# Altium integrated library Cypress PLD MAX EPLD.IntLib: 163 symbols (part 6 of 6)
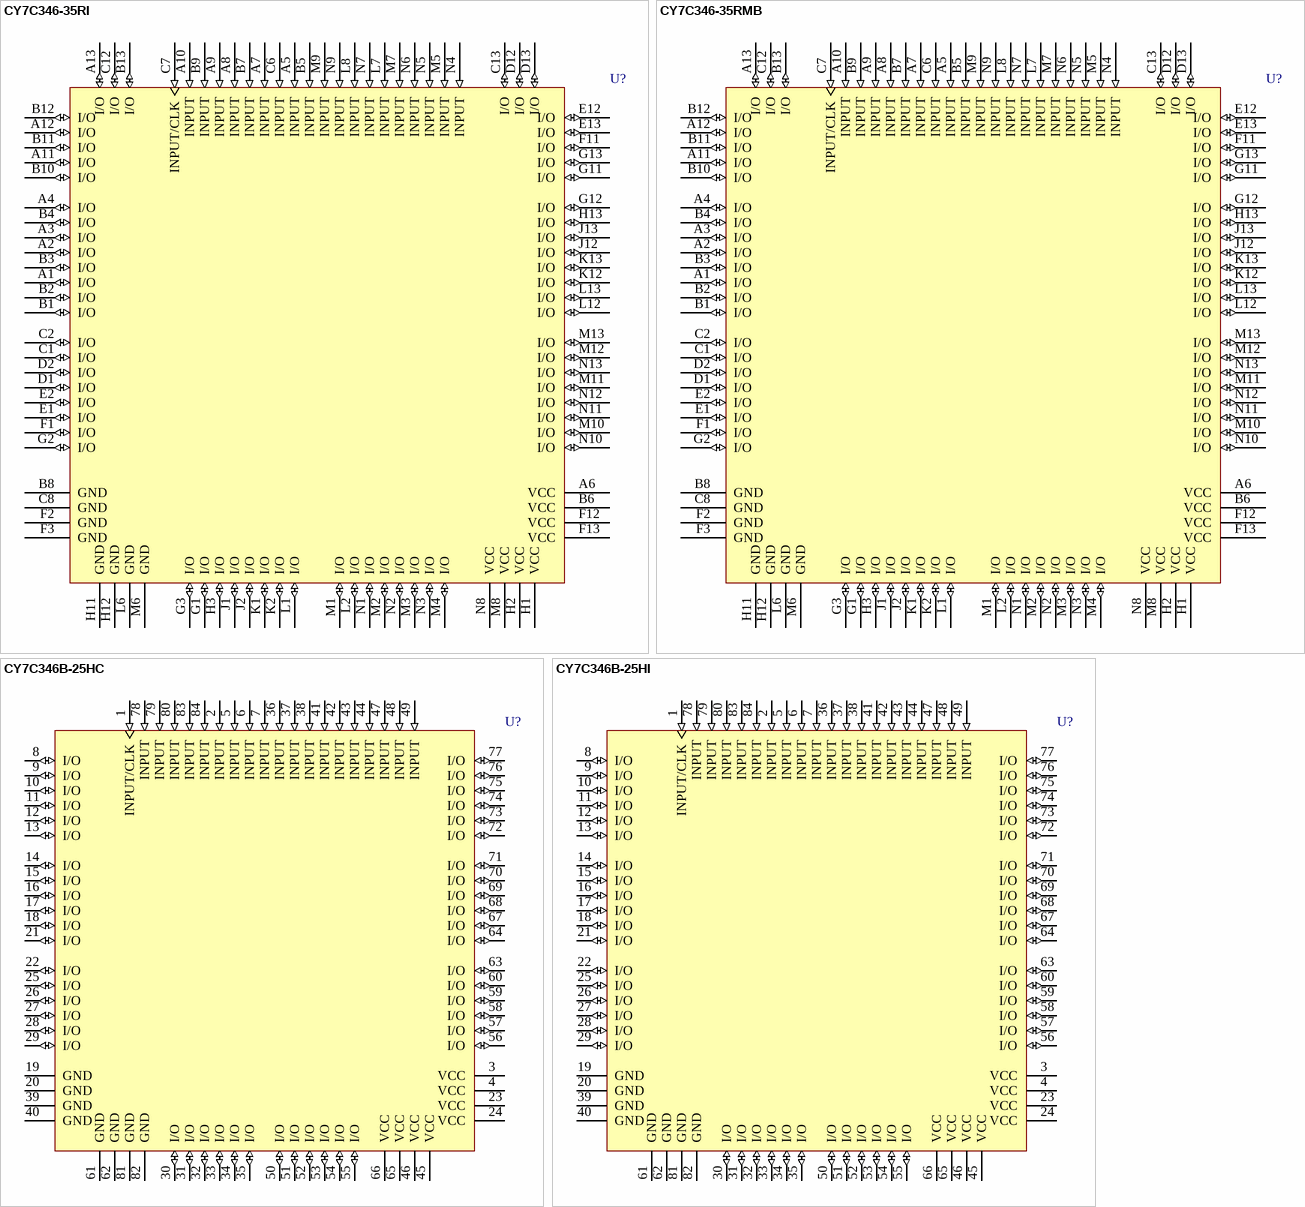
[diagram p28: symbols CY7C346-35RI to CY7C346B-25HI]

## CY7C346B-25HC
designator U?
128-Macrocell MAX EPLD; Published: 11-Dec-2002; LatestRevisionDate: 13-Apr-2006; LatestRevisionNote: IPC-7351 Footprint Added.; DatasheetVersion: 8-Dec-1999; PackageVersion: 8-Apr-2002; PackageReference: H84; Publisher: Altium Limited; PackageDescription: 84-Pin Window Leaded Chip Carrier 1.27 mm Pitch; ComponentLink1Description: Manufacturer Link; ComponentLink1URL: http://www.cypress.com/; ComponentLink2Description: Datasheet; ComponentLink2URL: http://www.cypress.com/portal/server.pt/gateway/PTARGS_0_2_1524_209_259_43/http%3B/sjapp20.mis.cypress.com%3B7001/publishedcontent/publish/design_resources/datasheets/contents/cy7c346b_5.pdf
footprint H84_N (Leaded Chip Carrier, 84-Leads, Body 29.2x29.2mm, Pitch 1.27mm, IPC Medium Density)
footprint H84_L (Leaded Chip Carrier, 84-Leads, Body 29.2x29.2mm, Pitch 1.27mm, IPC High Density)
footprint H84_M (Leaded Chip Carrier, 84-Leads, Body 29.2x29.2mm, Pitch 1.27mm, IPC Low Density)
3D model CY7C346B-H84 (84-Pin Window Leaded Chip Carrier 1.27 mm Pitch)
pins: 1 INPUT/CLK (in), 2 INPUT (in), 3 VCC (power), 4 VCC (power), 5 INPUT (in), 6 INPUT (in), 7 INPUT (in), 8 I/O (io), 9 I/O (io), 10 I/O (io), 11 I/O (io), 12 I/O (io), 13 I/O (io), 14 I/O (io), 15 I/O (io), 16 I/O (io), 17 I/O (io), 18 I/O (io), 19 GND (power), 20 GND (power), 21 I/O (io), 22 I/O (io), 23 VCC (power), 24 VCC (power), 25 I/O (io), 26 I/O (io), 27 I/O (io), 28 I/O (io), 29 I/O (io), 30 I/O (io), 31 I/O (io), 32 I/O (io), 33 I/O (io), 34 I/O (io), 35 I/O (io), 36 INPUT (in), 37 INPUT (in), 38 INPUT (in), 39 GND (power), 40 GND (power), 41 INPUT (in), 42 INPUT (in), 43 INPUT (in), 44 INPUT (in), 45 VCC (power), 46 VCC (power), 47 INPUT (in), 48 INPUT (in), 49 INPUT (in), 50 I/O (io), 51 I/O (io), 52 I/O (io), 53 I/O (io), 54 I/O (io), 55 I/O (io), 56 I/O (io), 57 I/O (io), 58 I/O (io), 59 I/O (io), 60 I/O (io), 61 GND (power), 62 GND (power), 63 I/O (io), 64 I/O (io), 65 VCC (power), 66 VCC (power), 67 I/O (io), 68 I/O (io), 69 I/O (io), 70 I/O (io), 71 I/O (io), 72 I/O (io), 73 I/O (io), 74 I/O (io), 75 I/O (io), 76 I/O (io), 77 I/O (io), 78 INPUT (in), 79 INPUT (in), 80 INPUT (in), 81 GND (power), 82 GND (power), 83 INPUT (in), 84 INPUT (in)

## CY7C346B-25HI
designator U?
128-Macrocell MAX EPLD; Published: 11-Dec-2002; LatestRevisionDate: 13-Apr-2006; LatestRevisionNote: IPC-7351 Footprint Added.; DatasheetVersion: 8-Dec-1999; PackageVersion: 8-Apr-2002; PackageReference: H84; Publisher: Altium Limited; PackageDescription: 84-Pin Window Leaded Chip Carrier 1.27 mm Pitch; ComponentLink1Description: Manufacturer Link; ComponentLink1URL: http://www.cypress.com/; ComponentLink2Description: Datasheet; ComponentLink2URL: http://www.cypress.com/portal/server.pt/gateway/PTARGS_0_2_1524_209_259_43/http%3B/sjapp20.mis.cypress.com%3B7001/publishedcontent/publish/design_resources/datasheets/contents/cy7c346b_5.pdf
footprint H84_N (Leaded Chip Carrier, 84-Leads, Body 29.2x29.2mm, Pitch 1.27mm, IPC Medium Density)
footprint H84_L (Leaded Chip Carrier, 84-Leads, Body 29.2x29.2mm, Pitch 1.27mm, IPC High Density)
footprint H84_M (Leaded Chip Carrier, 84-Leads, Body 29.2x29.2mm, Pitch 1.27mm, IPC Low Density)
3D model CY7C346B-H84 (84-Pin Window Leaded Chip Carrier 1.27 mm Pitch)
pins: 1 INPUT/CLK (in), 2 INPUT (in), 3 VCC (power), 4 VCC (power), 5 INPUT (in), 6 INPUT (in), 7 INPUT (in), 8 I/O (io), 9 I/O (io), 10 I/O (io), 11 I/O (io), 12 I/O (io), 13 I/O (io), 14 I/O (io), 15 I/O (io), 16 I/O (io), 17 I/O (io), 18 I/O (io), 19 GND (power), 20 GND (power), 21 I/O (io), 22 I/O (io), 23 VCC (power), 24 VCC (power), 25 I/O (io), 26 I/O (io), 27 I/O (io), 28 I/O (io), 29 I/O (io), 30 I/O (io), 31 I/O (io), 32 I/O (io), 33 I/O (io), 34 I/O (io), 35 I/O (io), 36 INPUT (in), 37 INPUT (in), 38 INPUT (in), 39 GND (power), 40 GND (power), 41 INPUT (in), 42 INPUT (in), 43 INPUT (in), 44 INPUT (in), 45 VCC (power), 46 VCC (power), 47 INPUT (in), 48 INPUT (in), 49 INPUT (in), 50 I/O (io), 51 I/O (io), 52 I/O (io), 53 I/O (io), 54 I/O (io), 55 I/O (io), 56 I/O (io), 57 I/O (io), 58 I/O (io), 59 I/O (io), 60 I/O (io), 61 GND (power), 62 GND (power), 63 I/O (io), 64 I/O (io), 65 VCC (power), 66 VCC (power), 67 I/O (io), 68 I/O (io), 69 I/O (io), 70 I/O (io), 71 I/O (io), 72 I/O (io), 73 I/O (io), 74 I/O (io), 75 I/O (io), 76 I/O (io), 77 I/O (io), 78 INPUT (in), 79 INPUT (in), 80 INPUT (in), 81 GND (power), 82 GND (power), 83 INPUT (in), 84 INPUT (in)

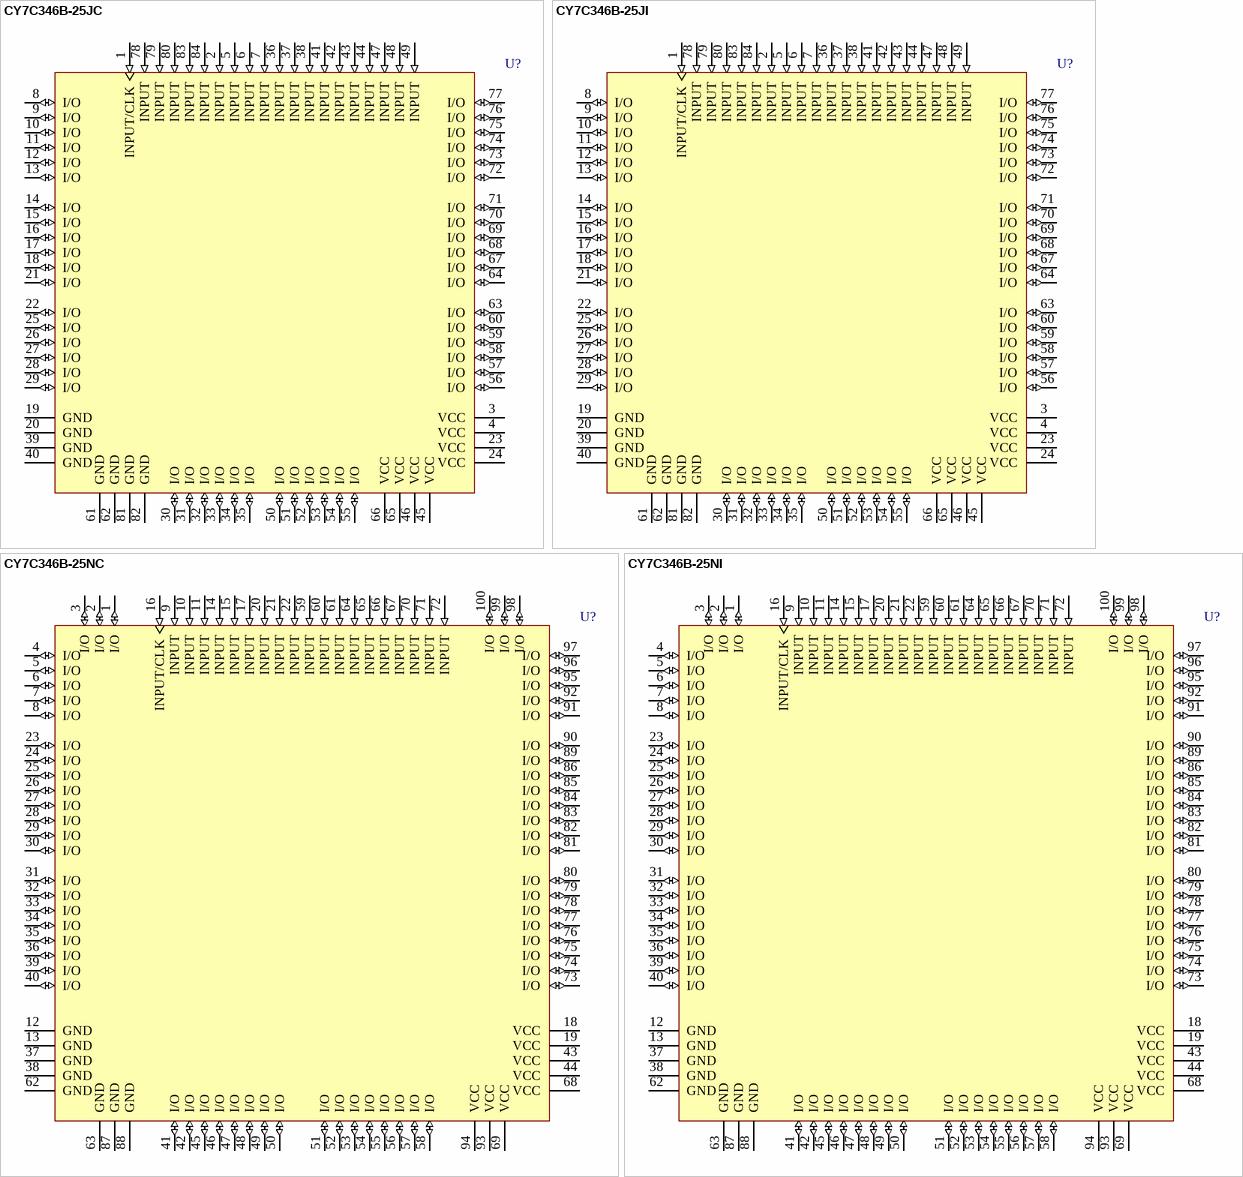
[diagram p20: symbols CY7C346B-25JC to CY7C346B-25NI]

## CY7C346B-25JC
designator U?
128-Macrocell MAX EPLD; Published: 11-Dec-2002; LatestRevisionDate: 13-Apr-2006; LatestRevisionNote: IPC-7351 Footprint Added.; DatasheetVersion: 8-Dec-1999; PackageVersion: Mar-2001; PackageReference: J83; Publisher: Altium Limited; PackageDescription: 84-Pin Plastic Leaded Chip Carrier 1.27 mm Pitch; Code_IPC: PLCC-84; ComponentLink1Description: Manufacturer Link; ComponentLink1URL: http://www.cypress.com/; ComponentLink2Description: Datasheet; ComponentLink2URL: http://www.cypress.com/portal/server.pt/gateway/PTARGS_0_2_1524_209_259_43/http%3B/sjapp20.mis.cypress.com%3B7001/publishedcontent/publish/design_resources/datasheets/contents/cy7c346b_5.pdf
footprint J83_N (Leaded Chip Carrier, 84-Leads, Body 29.3x29.3mm, Pitch 1.27mm, IPC Medium Density)
footprint J83_L (Leaded Chip Carrier, 84-Leads, Body 29.3x29.3mm, Pitch 1.27mm, IPC High Density)
footprint J83_M (Leaded Chip Carrier, 84-Leads, Body 29.3x29.3mm, Pitch 1.27mm, IPC Low Density)
3D model CY7C346B-J83 (84-Pin Plastic Leaded Chip Carrier 1.27 mm Pitch)
pins: 1 INPUT/CLK (in), 2 INPUT (in), 3 VCC (power), 4 VCC (power), 5 INPUT (in), 6 INPUT (in), 7 INPUT (in), 8 I/O (io), 9 I/O (io), 10 I/O (io), 11 I/O (io), 12 I/O (io), 13 I/O (io), 14 I/O (io), 15 I/O (io), 16 I/O (io), 17 I/O (io), 18 I/O (io), 19 GND (power), 20 GND (power), 21 I/O (io), 22 I/O (io), 23 VCC (power), 24 VCC (power), 25 I/O (io), 26 I/O (io), 27 I/O (io), 28 I/O (io), 29 I/O (io), 30 I/O (io), 31 I/O (io), 32 I/O (io), 33 I/O (io), 34 I/O (io), 35 I/O (io), 36 INPUT (in), 37 INPUT (in), 38 INPUT (in), 39 GND (power), 40 GND (power), 41 INPUT (in), 42 INPUT (in), 43 INPUT (in), 44 INPUT (in), 45 VCC (power), 46 VCC (power), 47 INPUT (in), 48 INPUT (in), 49 INPUT (in), 50 I/O (io), 51 I/O (io), 52 I/O (io), 53 I/O (io), 54 I/O (io), 55 I/O (io), 56 I/O (io), 57 I/O (io), 58 I/O (io), 59 I/O (io), 60 I/O (io), 61 GND (power), 62 GND (power), 63 I/O (io), 64 I/O (io), 65 VCC (power), 66 VCC (power), 67 I/O (io), 68 I/O (io), 69 I/O (io), 70 I/O (io), 71 I/O (io), 72 I/O (io), 73 I/O (io), 74 I/O (io), 75 I/O (io), 76 I/O (io), 77 I/O (io), 78 INPUT (in), 79 INPUT (in), 80 INPUT (in), 81 GND (power), 82 GND (power), 83 INPUT (in), 84 INPUT (in)

## CY7C346B-25JI
designator U?
128-Macrocell MAX EPLD; Published: 11-Dec-2002; LatestRevisionDate: 13-Apr-2006; LatestRevisionNote: IPC-7351 Footprint Added.; DatasheetVersion: 8-Dec-1999; PackageVersion: Mar-2001; PackageReference: J83; Publisher: Altium Limited; PackageDescription: 84-Pin Plastic Leaded Chip Carrier 1.27 mm Pitch; Code_IPC: PLCC-84; ComponentLink1Description: Manufacturer Link; ComponentLink1URL: http://www.cypress.com/; ComponentLink2Description: Datasheet; ComponentLink2URL: http://www.cypress.com/portal/server.pt/gateway/PTARGS_0_2_1524_209_259_43/http%3B/sjapp20.mis.cypress.com%3B7001/publishedcontent/publish/design_resources/datasheets/contents/cy7c346b_5.pdf
footprint J83_N (Leaded Chip Carrier, 84-Leads, Body 29.3x29.3mm, Pitch 1.27mm, IPC Medium Density)
footprint J83_L (Leaded Chip Carrier, 84-Leads, Body 29.3x29.3mm, Pitch 1.27mm, IPC High Density)
footprint J83_M (Leaded Chip Carrier, 84-Leads, Body 29.3x29.3mm, Pitch 1.27mm, IPC Low Density)
3D model CY7C346B-J83 (84-Pin Plastic Leaded Chip Carrier 1.27 mm Pitch)
pins: 1 INPUT/CLK (in), 2 INPUT (in), 3 VCC (power), 4 VCC (power), 5 INPUT (in), 6 INPUT (in), 7 INPUT (in), 8 I/O (io), 9 I/O (io), 10 I/O (io), 11 I/O (io), 12 I/O (io), 13 I/O (io), 14 I/O (io), 15 I/O (io), 16 I/O (io), 17 I/O (io), 18 I/O (io), 19 GND (power), 20 GND (power), 21 I/O (io), 22 I/O (io), 23 VCC (power), 24 VCC (power), 25 I/O (io), 26 I/O (io), 27 I/O (io), 28 I/O (io), 29 I/O (io), 30 I/O (io), 31 I/O (io), 32 I/O (io), 33 I/O (io), 34 I/O (io), 35 I/O (io), 36 INPUT (in), 37 INPUT (in), 38 INPUT (in), 39 GND (power), 40 GND (power), 41 INPUT (in), 42 INPUT (in), 43 INPUT (in), 44 INPUT (in), 45 VCC (power), 46 VCC (power), 47 INPUT (in), 48 INPUT (in), 49 INPUT (in), 50 I/O (io), 51 I/O (io), 52 I/O (io), 53 I/O (io), 54 I/O (io), 55 I/O (io), 56 I/O (io), 57 I/O (io), 58 I/O (io), 59 I/O (io), 60 I/O (io), 61 GND (power), 62 GND (power), 63 I/O (io), 64 I/O (io), 65 VCC (power), 66 VCC (power), 67 I/O (io), 68 I/O (io), 69 I/O (io), 70 I/O (io), 71 I/O (io), 72 I/O (io), 73 I/O (io), 74 I/O (io), 75 I/O (io), 76 I/O (io), 77 I/O (io), 78 INPUT (in), 79 INPUT (in), 80 INPUT (in), 81 GND (power), 82 GND (power), 83 INPUT (in), 84 INPUT (in)

## CY7C346B-25NC
designator U?
128-Macrocell MAX EPLD; Published: 11-Dec-2002; LatestRevisionDate: 13-Apr-2006; LatestRevisionNote: IPC-7351 Footprint Added.; DatasheetVersion: 8-Dec-1999; PackageVersion: Apr-2002; PackageReference: N100; Publisher: Altium Limited; PackageDescription: 100-Pin Plastic Quad Flat Pack Rectangular 0.65 mm Pitch; Code_IPC: QFP65P1720X2320-100; ComponentLink1Description: Manufacturer Link; ComponentLink1URL: http://www.cypress.com/; ComponentLink2Description: Datasheet; ComponentLink2URL: http://www.cypress.com/portal/server.pt/gateway/PTARGS_0_2_1524_209_259_43/http%3B/sjapp20.mis.cypress.com%3B7001/publishedcontent/publish/design_resources/datasheets/contents/cy7c346b_5.pdf
footprint N100_N (QFP, 100-Leads, Body 20x14mm, Pitch 0.65mm, IPC Medium Density)
footprint N100_L (QFP, 100-Leads, Body 20x14mm, Pitch 0.65mm, IPC High Density)
footprint N100_M (QFP, 100-Leads, Body 20x14mm, Pitch 0.65mm, IPC Low Density)
3D model CY7C346B-N100 (100-Pin Plastic Quad Flat Pack Rectangular 0.65 mm Pitch)
pins: 1 I/O (io), 2 I/O (io), 3 I/O (io), 4 I/O (io), 5 I/O (io), 6 I/O (io), 7 I/O (io), 8 I/O (io), 9 INPUT (in), 10 INPUT (in), 11 INPUT (in), 12 GND (power), 13 GND (power), 14 INPUT (in), 15 INPUT (in), 16 INPUT/CLK (in), 17 INPUT (in), 18 VCC (power), 19 VCC (power), 20 INPUT (in), 21 INPUT (in), 22 INPUT (in), 23 I/O (io), 24 I/O (io), 25 I/O (io), 26 I/O (io), 27 I/O (io), 28 I/O (io), 29 I/O (io), 30 I/O (io), 31 I/O (io), 32 I/O (io), 33 I/O (io), 34 I/O (io), 35 I/O (io), 36 I/O (io), 37 GND (power), 38 GND (power), 39 I/O (io), 40 I/O (io), 41 I/O (io), 42 I/O (io), 43 VCC (power), 44 VCC (power), 45 I/O (io), 46 I/O (io), 47 I/O (io), 48 I/O (io), 49 I/O (io), 50 I/O (io), 51 I/O (io), 52 I/O (io), 53 I/O (io), 54 I/O (io), 55 I/O (io), 56 I/O (io), 57 I/O (io), 58 I/O (io), 59 INPUT (in), 60 INPUT (in), 61 INPUT (in), 62 GND (power), 63 GND (power), 64 INPUT (in), 65 INPUT (in), 66 INPUT (in), 67 INPUT (in), 68 VCC (power), 69 VCC (power), 70 INPUT (in), 71 INPUT (in), 72 INPUT (in), 73 I/O (io), 74 I/O (io), 75 I/O (io), 76 I/O (io), 77 I/O (io), 78 I/O (io), 79 I/O (io), 80 I/O (io), 81 I/O (io), 82 I/O (io), 83 I/O (io), 84 I/O (io), 85 I/O (io), 86 I/O (io), 87 GND (power), 88 GND (power), 89 I/O (io), 90 I/O (io), 91 I/O (io), 92 I/O (io), 93 VCC (power), 94 VCC (power), 95 I/O (io), 96 I/O (io), 97 I/O (io), 98 I/O (io), 99 I/O (io), 100 I/O (io)

## CY7C346B-25NI
designator U?
128-Macrocell MAX EPLD; Published: 11-Dec-2002; LatestRevisionDate: 13-Apr-2006; LatestRevisionNote: IPC-7351 Footprint Added.; DatasheetVersion: 8-Dec-1999; PackageVersion: Apr-2002; PackageReference: N100; Publisher: Altium Limited; PackageDescription: 100-Pin Plastic Quad Flat Pack Rectangular 0.65 mm Pitch; Code_IPC: QFP65P1720X2320-100; ComponentLink1Description: Manufacturer Link; ComponentLink1URL: http://www.cypress.com/; ComponentLink2Description: Datasheet; ComponentLink2URL: http://www.cypress.com/portal/server.pt/gateway/PTARGS_0_2_1524_209_259_43/http%3B/sjapp20.mis.cypress.com%3B7001/publishedcontent/publish/design_resources/datasheets/contents/cy7c346b_5.pdf
footprint N100_N (QFP, 100-Leads, Body 20x14mm, Pitch 0.65mm, IPC Medium Density)
footprint N100_L (QFP, 100-Leads, Body 20x14mm, Pitch 0.65mm, IPC High Density)
footprint N100_M (QFP, 100-Leads, Body 20x14mm, Pitch 0.65mm, IPC Low Density)
3D model CY7C346B-N100 (100-Pin Plastic Quad Flat Pack Rectangular 0.65 mm Pitch)
pins: 1 I/O (io), 2 I/O (io), 3 I/O (io), 4 I/O (io), 5 I/O (io), 6 I/O (io), 7 I/O (io), 8 I/O (io), 9 INPUT (in), 10 INPUT (in), 11 INPUT (in), 12 GND (power), 13 GND (power), 14 INPUT (in), 15 INPUT (in), 16 INPUT/CLK (in), 17 INPUT (in), 18 VCC (power), 19 VCC (power), 20 INPUT (in), 21 INPUT (in), 22 INPUT (in), 23 I/O (io), 24 I/O (io), 25 I/O (io), 26 I/O (io), 27 I/O (io), 28 I/O (io), 29 I/O (io), 30 I/O (io), 31 I/O (io), 32 I/O (io), 33 I/O (io), 34 I/O (io), 35 I/O (io), 36 I/O (io), 37 GND (power), 38 GND (power), 39 I/O (io), 40 I/O (io), 41 I/O (io), 42 I/O (io), 43 VCC (power), 44 VCC (power), 45 I/O (io), 46 I/O (io), 47 I/O (io), 48 I/O (io), 49 I/O (io), 50 I/O (io), 51 I/O (io), 52 I/O (io), 53 I/O (io), 54 I/O (io), 55 I/O (io), 56 I/O (io), 57 I/O (io), 58 I/O (io), 59 INPUT (in), 60 INPUT (in), 61 INPUT (in), 62 GND (power), 63 GND (power), 64 INPUT (in), 65 INPUT (in), 66 INPUT (in), 67 INPUT (in), 68 VCC (power), 69 VCC (power), 70 INPUT (in), 71 INPUT (in), 72 INPUT (in), 73 I/O (io), 74 I/O (io), 75 I/O (io), 76 I/O (io), 77 I/O (io), 78 I/O (io), 79 I/O (io), 80 I/O (io), 81 I/O (io), 82 I/O (io), 83 I/O (io), 84 I/O (io), 85 I/O (io), 86 I/O (io), 87 GND (power), 88 GND (power), 89 I/O (io), 90 I/O (io), 91 I/O (io), 92 I/O (io), 93 VCC (power), 94 VCC (power), 95 I/O (io), 96 I/O (io), 97 I/O (io), 98 I/O (io), 99 I/O (io), 100 I/O (io)

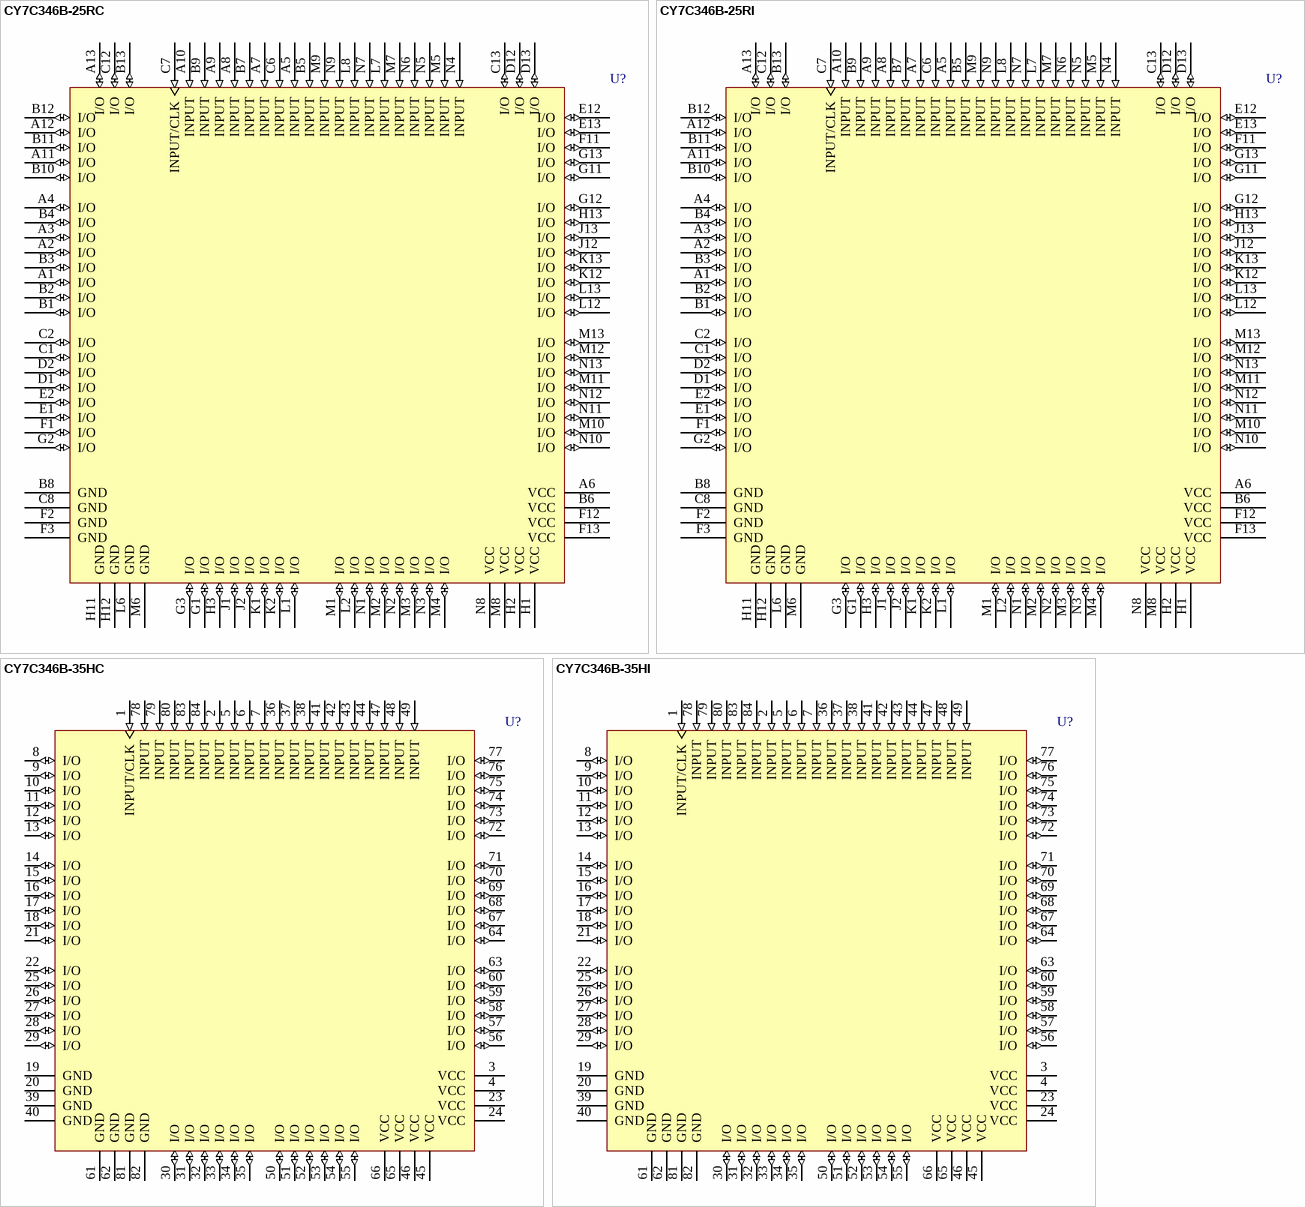
[diagram p21: symbols CY7C346B-25RC to CY7C346B-35HI]

## CY7C346B-25RC
designator U?
128-Macrocell MAX EPLD; Published: 11-Dec-2002; LatestRevisionDate: 04-Mar-2005; LatestRevisionNote: Stylized 3D Model Added.; DatasheetVersion: 8-Dec-1999; PackageVersion: Apr-2002; PackageReference: R100; Publisher: Altium Limited; PackageDescription: 100-Pin Ceramic Window Pin Grid Array 2.54 mm Pitch; ComponentLink1Description: Manufacturer Link; ComponentLink1URL: http://www.cypress.com/; ComponentLink2Description: Datasheet; ComponentLink2URL: http://www.cypress.com/portal/server.pt/gateway/PTARGS_0_2_1524_209_259_43/http%3B/sjapp20.mis.cypress.com%3B7001/publishedcontent/publish/design_resources/datasheets/contents/cy7c346b_5.pdf
footprint R100 (PGA, 100-Leads, Body 33.3x33.3mm, Pitch 2.54mm)
3D model CY7C346B-R100 (100-Pin Ceramic Window Pin Grid Array 2.54 mm Pitch)
pins: A1 I/O (io), A2 I/O (io), A3 I/O (io), A4 I/O (io), A5 INPUT (in), A6 VCC (power), A7 INPUT (in), A8 INPUT (in), A9 INPUT (in), A10 INPUT (in), A11 I/O (io), A12 I/O (io), A13 I/O (io), B1 I/O (io), B2 I/O (io), B3 I/O (io), B4 I/O (io), B5 INPUT (in), B6 VCC (power), B7 INPUT (in), B8 GND (power), B9 INPUT (in), B10 I/O (io), B11 I/O (io), B12 I/O (io), B13 I/O (io), C1 I/O (io), C2 I/O (io), C6 INPUT (in), C7 INPUT/CLK (in), C8 GND (power), C12 I/O (io), C13 I/O (io), D1 I/O (io), D2 I/O (io), D12 I/O (io), D13 I/O (io), E1 I/O (io), E2 I/O (io), E12 I/O (io), E13 I/O (io), F1 I/O (io), F2 GND (power), F3 GND (power), F11 I/O (io), F12 VCC (power), F13 VCC (power), G1 I/O (io), G2 I/O (io), G3 I/O (io), G11 I/O (io), G12 I/O (io), G13 I/O (io), H1 VCC (power), H2 VCC (power), H3 I/O (io), H11 GND (power), H12 GND (power), H13 I/O (io), J1 I/O (io), J2 I/O (io), J12 I/O (io), J13 I/O (io), K1 I/O (io), K2 I/O (io), K12 I/O (io), K13 I/O (io), L1 I/O (io), L2 I/O (io), L6 GND (power), L7 INPUT (in), L8 INPUT (in), L12 I/O (io), L13 I/O (io), M1 I/O (io), M2 I/O (io), M3 I/O (io), M4 I/O (io), M5 INPUT (in), M6 GND (power), M7 INPUT (in), M8 VCC (power), M9 INPUT (in), M10 I/O (io), M11 I/O (io), M12 I/O (io), M13 I/O (io), N1 I/O (io), N2 I/O (io), N3 I/O (io), N4 INPUT (in), N5 INPUT (in), N6 INPUT (in), N7 INPUT (in), N8 VCC (power), N9 INPUT (in), N10 I/O (io), N11 I/O (io), N12 I/O (io), N13 I/O (io)

## CY7C346B-25RI
designator U?
128-Macrocell MAX EPLD; Published: 11-Dec-2002; LatestRevisionDate: 04-Mar-2005; LatestRevisionNote: Stylized 3D Model Added.; DatasheetVersion: 8-Dec-1999; PackageVersion: Apr-2002; PackageReference: R100; Publisher: Altium Limited; PackageDescription: 100-Pin Ceramic Window Pin Grid Array 2.54 mm Pitch; ComponentLink1Description: Manufacturer Link; ComponentLink1URL: http://www.cypress.com/; ComponentLink2Description: Datasheet; ComponentLink2URL: http://www.cypress.com/portal/server.pt/gateway/PTARGS_0_2_1524_209_259_43/http%3B/sjapp20.mis.cypress.com%3B7001/publishedcontent/publish/design_resources/datasheets/contents/cy7c346b_5.pdf
footprint R100 (PGA, 100-Leads, Body 33.3x33.3mm, Pitch 2.54mm)
3D model CY7C346B-R100 (100-Pin Ceramic Window Pin Grid Array 2.54 mm Pitch)
pins: A1 I/O (io), A2 I/O (io), A3 I/O (io), A4 I/O (io), A5 INPUT (in), A6 VCC (power), A7 INPUT (in), A8 INPUT (in), A9 INPUT (in), A10 INPUT (in), A11 I/O (io), A12 I/O (io), A13 I/O (io), B1 I/O (io), B2 I/O (io), B3 I/O (io), B4 I/O (io), B5 INPUT (in), B6 VCC (power), B7 INPUT (in), B8 GND (power), B9 INPUT (in), B10 I/O (io), B11 I/O (io), B12 I/O (io), B13 I/O (io), C1 I/O (io), C2 I/O (io), C6 INPUT (in), C7 INPUT/CLK (in), C8 GND (power), C12 I/O (io), C13 I/O (io), D1 I/O (io), D2 I/O (io), D12 I/O (io), D13 I/O (io), E1 I/O (io), E2 I/O (io), E12 I/O (io), E13 I/O (io), F1 I/O (io), F2 GND (power), F3 GND (power), F11 I/O (io), F12 VCC (power), F13 VCC (power), G1 I/O (io), G2 I/O (io), G3 I/O (io), G11 I/O (io), G12 I/O (io), G13 I/O (io), H1 VCC (power), H2 VCC (power), H3 I/O (io), H11 GND (power), H12 GND (power), H13 I/O (io), J1 I/O (io), J2 I/O (io), J12 I/O (io), J13 I/O (io), K1 I/O (io), K2 I/O (io), K12 I/O (io), K13 I/O (io), L1 I/O (io), L2 I/O (io), L6 GND (power), L7 INPUT (in), L8 INPUT (in), L12 I/O (io), L13 I/O (io), M1 I/O (io), M2 I/O (io), M3 I/O (io), M4 I/O (io), M5 INPUT (in), M6 GND (power), M7 INPUT (in), M8 VCC (power), M9 INPUT (in), M10 I/O (io), M11 I/O (io), M12 I/O (io), M13 I/O (io), N1 I/O (io), N2 I/O (io), N3 I/O (io), N4 INPUT (in), N5 INPUT (in), N6 INPUT (in), N7 INPUT (in), N8 VCC (power), N9 INPUT (in), N10 I/O (io), N11 I/O (io), N12 I/O (io), N13 I/O (io)

## CY7C346B-35HC
designator U?
128-Macrocell MAX EPLD; Published: 11-Dec-2002; LatestRevisionDate: 13-Apr-2006; LatestRevisionNote: IPC-7351 Footprint Added.; DatasheetVersion: 8-Dec-1999; PackageVersion: 8-Apr-2002; PackageReference: H84; Publisher: Altium Limited; PackageDescription: 84-Pin Window Leaded Chip Carrier 1.27 mm Pitch; ComponentLink1Description: Manufacturer Link; ComponentLink1URL: http://www.cypress.com/; ComponentLink2Description: Datasheet; ComponentLink2URL: http://www.cypress.com/portal/server.pt/gateway/PTARGS_0_2_1524_209_259_43/http%3B/sjapp20.mis.cypress.com%3B7001/publishedcontent/publish/design_resources/datasheets/contents/cy7c346b_5.pdf
footprint H84_N (Leaded Chip Carrier, 84-Leads, Body 29.2x29.2mm, Pitch 1.27mm, IPC Medium Density)
footprint H84_L (Leaded Chip Carrier, 84-Leads, Body 29.2x29.2mm, Pitch 1.27mm, IPC High Density)
footprint H84_M (Leaded Chip Carrier, 84-Leads, Body 29.2x29.2mm, Pitch 1.27mm, IPC Low Density)
3D model CY7C346B-H84 (84-Pin Window Leaded Chip Carrier 1.27 mm Pitch)
pins: 1 INPUT/CLK (in), 2 INPUT (in), 3 VCC (power), 4 VCC (power), 5 INPUT (in), 6 INPUT (in), 7 INPUT (in), 8 I/O (io), 9 I/O (io), 10 I/O (io), 11 I/O (io), 12 I/O (io), 13 I/O (io), 14 I/O (io), 15 I/O (io), 16 I/O (io), 17 I/O (io), 18 I/O (io), 19 GND (power), 20 GND (power), 21 I/O (io), 22 I/O (io), 23 VCC (power), 24 VCC (power), 25 I/O (io), 26 I/O (io), 27 I/O (io), 28 I/O (io), 29 I/O (io), 30 I/O (io), 31 I/O (io), 32 I/O (io), 33 I/O (io), 34 I/O (io), 35 I/O (io), 36 INPUT (in), 37 INPUT (in), 38 INPUT (in), 39 GND (power), 40 GND (power), 41 INPUT (in), 42 INPUT (in), 43 INPUT (in), 44 INPUT (in), 45 VCC (power), 46 VCC (power), 47 INPUT (in), 48 INPUT (in), 49 INPUT (in), 50 I/O (io), 51 I/O (io), 52 I/O (io), 53 I/O (io), 54 I/O (io), 55 I/O (io), 56 I/O (io), 57 I/O (io), 58 I/O (io), 59 I/O (io), 60 I/O (io), 61 GND (power), 62 GND (power), 63 I/O (io), 64 I/O (io), 65 VCC (power), 66 VCC (power), 67 I/O (io), 68 I/O (io), 69 I/O (io), 70 I/O (io), 71 I/O (io), 72 I/O (io), 73 I/O (io), 74 I/O (io), 75 I/O (io), 76 I/O (io), 77 I/O (io), 78 INPUT (in), 79 INPUT (in), 80 INPUT (in), 81 GND (power), 82 GND (power), 83 INPUT (in), 84 INPUT (in)

## CY7C346B-35HI
designator U?
128-Macrocell MAX EPLD; Published: 11-Dec-2002; LatestRevisionDate: 13-Apr-2006; LatestRevisionNote: IPC-7351 Footprint Added.; DatasheetVersion: 8-Dec-1999; PackageVersion: 8-Apr-2002; PackageReference: H84; Publisher: Altium Limited; PackageDescription: 84-Pin Window Leaded Chip Carrier 1.27 mm Pitch; ComponentLink1Description: Manufacturer Link; ComponentLink1URL: http://www.cypress.com/; ComponentLink2Description: Datasheet; ComponentLink2URL: http://www.cypress.com/portal/server.pt/gateway/PTARGS_0_2_1524_209_259_43/http%3B/sjapp20.mis.cypress.com%3B7001/publishedcontent/publish/design_resources/datasheets/contents/cy7c346b_5.pdf
footprint H84_N (Leaded Chip Carrier, 84-Leads, Body 29.2x29.2mm, Pitch 1.27mm, IPC Medium Density)
footprint H84_L (Leaded Chip Carrier, 84-Leads, Body 29.2x29.2mm, Pitch 1.27mm, IPC High Density)
footprint H84_M (Leaded Chip Carrier, 84-Leads, Body 29.2x29.2mm, Pitch 1.27mm, IPC Low Density)
3D model CY7C346B-H84 (84-Pin Window Leaded Chip Carrier 1.27 mm Pitch)
pins: 1 INPUT/CLK (in), 2 INPUT (in), 3 VCC (power), 4 VCC (power), 5 INPUT (in), 6 INPUT (in), 7 INPUT (in), 8 I/O (io), 9 I/O (io), 10 I/O (io), 11 I/O (io), 12 I/O (io), 13 I/O (io), 14 I/O (io), 15 I/O (io), 16 I/O (io), 17 I/O (io), 18 I/O (io), 19 GND (power), 20 GND (power), 21 I/O (io), 22 I/O (io), 23 VCC (power), 24 VCC (power), 25 I/O (io), 26 I/O (io), 27 I/O (io), 28 I/O (io), 29 I/O (io), 30 I/O (io), 31 I/O (io), 32 I/O (io), 33 I/O (io), 34 I/O (io), 35 I/O (io), 36 INPUT (in), 37 INPUT (in), 38 INPUT (in), 39 GND (power), 40 GND (power), 41 INPUT (in), 42 INPUT (in), 43 INPUT (in), 44 INPUT (in), 45 VCC (power), 46 VCC (power), 47 INPUT (in), 48 INPUT (in), 49 INPUT (in), 50 I/O (io), 51 I/O (io), 52 I/O (io), 53 I/O (io), 54 I/O (io), 55 I/O (io), 56 I/O (io), 57 I/O (io), 58 I/O (io), 59 I/O (io), 60 I/O (io), 61 GND (power), 62 GND (power), 63 I/O (io), 64 I/O (io), 65 VCC (power), 66 VCC (power), 67 I/O (io), 68 I/O (io), 69 I/O (io), 70 I/O (io), 71 I/O (io), 72 I/O (io), 73 I/O (io), 74 I/O (io), 75 I/O (io), 76 I/O (io), 77 I/O (io), 78 INPUT (in), 79 INPUT (in), 80 INPUT (in), 81 GND (power), 82 GND (power), 83 INPUT (in), 84 INPUT (in)

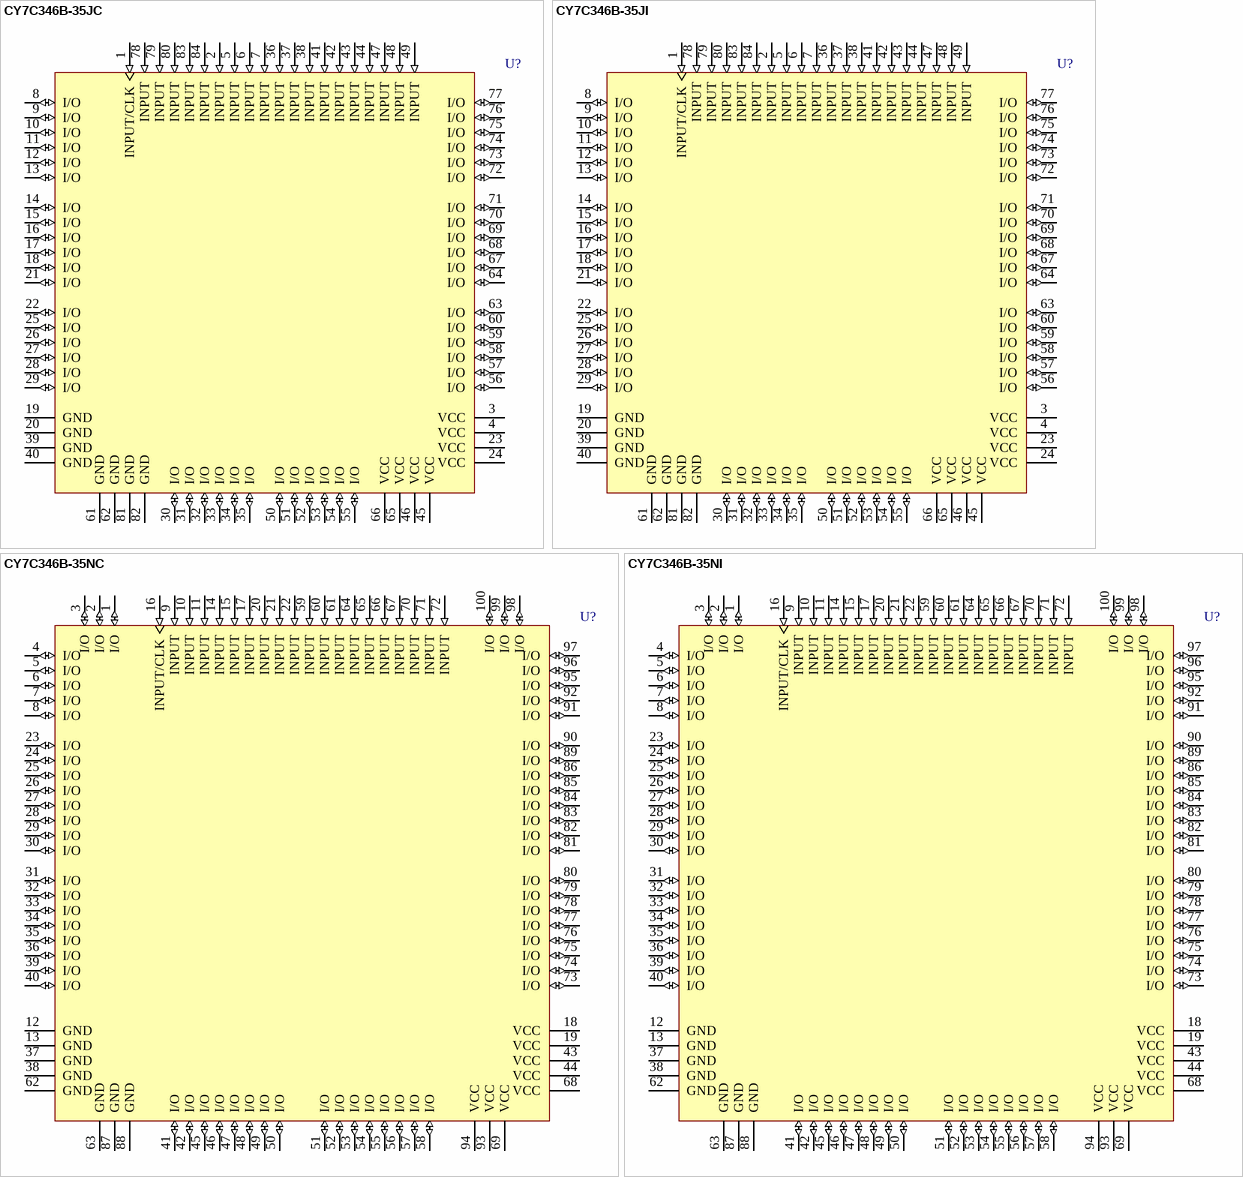
[diagram p22: symbols CY7C346B-35JC to CY7C346B-35NI]

## CY7C346B-35JC
designator U?
128-Macrocell MAX EPLD; Published: 11-Dec-2002; LatestRevisionDate: 13-Apr-2006; LatestRevisionNote: IPC-7351 Footprint Added.; DatasheetVersion: 8-Dec-1999; PackageVersion: Mar-2001; PackageReference: J83; Publisher: Altium Limited; PackageDescription: 84-Pin Plastic Leaded Chip Carrier 1.27 mm Pitch; Code_IPC: PLCC-84; ComponentLink1Description: Manufacturer Link; ComponentLink1URL: http://www.cypress.com/; ComponentLink2Description: Datasheet; ComponentLink2URL: http://www.cypress.com/portal/server.pt/gateway/PTARGS_0_2_1524_209_259_43/http%3B/sjapp20.mis.cypress.com%3B7001/publishedcontent/publish/design_resources/datasheets/contents/cy7c346b_5.pdf
footprint J83_N (Leaded Chip Carrier, 84-Leads, Body 29.3x29.3mm, Pitch 1.27mm, IPC Medium Density)
footprint J83_L (Leaded Chip Carrier, 84-Leads, Body 29.3x29.3mm, Pitch 1.27mm, IPC High Density)
footprint J83_M (Leaded Chip Carrier, 84-Leads, Body 29.3x29.3mm, Pitch 1.27mm, IPC Low Density)
3D model CY7C346B-J83 (84-Pin Plastic Leaded Chip Carrier 1.27 mm Pitch)
pins: 1 INPUT/CLK (in), 2 INPUT (in), 3 VCC (power), 4 VCC (power), 5 INPUT (in), 6 INPUT (in), 7 INPUT (in), 8 I/O (io), 9 I/O (io), 10 I/O (io), 11 I/O (io), 12 I/O (io), 13 I/O (io), 14 I/O (io), 15 I/O (io), 16 I/O (io), 17 I/O (io), 18 I/O (io), 19 GND (power), 20 GND (power), 21 I/O (io), 22 I/O (io), 23 VCC (power), 24 VCC (power), 25 I/O (io), 26 I/O (io), 27 I/O (io), 28 I/O (io), 29 I/O (io), 30 I/O (io), 31 I/O (io), 32 I/O (io), 33 I/O (io), 34 I/O (io), 35 I/O (io), 36 INPUT (in), 37 INPUT (in), 38 INPUT (in), 39 GND (power), 40 GND (power), 41 INPUT (in), 42 INPUT (in), 43 INPUT (in), 44 INPUT (in), 45 VCC (power), 46 VCC (power), 47 INPUT (in), 48 INPUT (in), 49 INPUT (in), 50 I/O (io), 51 I/O (io), 52 I/O (io), 53 I/O (io), 54 I/O (io), 55 I/O (io), 56 I/O (io), 57 I/O (io), 58 I/O (io), 59 I/O (io), 60 I/O (io), 61 GND (power), 62 GND (power), 63 I/O (io), 64 I/O (io), 65 VCC (power), 66 VCC (power), 67 I/O (io), 68 I/O (io), 69 I/O (io), 70 I/O (io), 71 I/O (io), 72 I/O (io), 73 I/O (io), 74 I/O (io), 75 I/O (io), 76 I/O (io), 77 I/O (io), 78 INPUT (in), 79 INPUT (in), 80 INPUT (in), 81 GND (power), 82 GND (power), 83 INPUT (in), 84 INPUT (in)

## CY7C346B-35JI
designator U?
128-Macrocell MAX EPLD; Published: 11-Dec-2002; LatestRevisionDate: 13-Apr-2006; LatestRevisionNote: IPC-7351 Footprint Added.; DatasheetVersion: 8-Dec-1999; PackageVersion: Mar-2001; PackageReference: J83; Publisher: Altium Limited; PackageDescription: 84-Pin Plastic Leaded Chip Carrier 1.27 mm Pitch; Code_IPC: PLCC-84; ComponentLink1Description: Manufacturer Link; ComponentLink1URL: http://www.cypress.com/; ComponentLink2Description: Datasheet; ComponentLink2URL: http://www.cypress.com/portal/server.pt/gateway/PTARGS_0_2_1524_209_259_43/http%3B/sjapp20.mis.cypress.com%3B7001/publishedcontent/publish/design_resources/datasheets/contents/cy7c346b_5.pdf
footprint J83_N (Leaded Chip Carrier, 84-Leads, Body 29.3x29.3mm, Pitch 1.27mm, IPC Medium Density)
footprint J83_L (Leaded Chip Carrier, 84-Leads, Body 29.3x29.3mm, Pitch 1.27mm, IPC High Density)
footprint J83_M (Leaded Chip Carrier, 84-Leads, Body 29.3x29.3mm, Pitch 1.27mm, IPC Low Density)
3D model CY7C346B-J83 (84-Pin Plastic Leaded Chip Carrier 1.27 mm Pitch)
pins: 1 INPUT/CLK (in), 2 INPUT (in), 3 VCC (power), 4 VCC (power), 5 INPUT (in), 6 INPUT (in), 7 INPUT (in), 8 I/O (io), 9 I/O (io), 10 I/O (io), 11 I/O (io), 12 I/O (io), 13 I/O (io), 14 I/O (io), 15 I/O (io), 16 I/O (io), 17 I/O (io), 18 I/O (io), 19 GND (power), 20 GND (power), 21 I/O (io), 22 I/O (io), 23 VCC (power), 24 VCC (power), 25 I/O (io), 26 I/O (io), 27 I/O (io), 28 I/O (io), 29 I/O (io), 30 I/O (io), 31 I/O (io), 32 I/O (io), 33 I/O (io), 34 I/O (io), 35 I/O (io), 36 INPUT (in), 37 INPUT (in), 38 INPUT (in), 39 GND (power), 40 GND (power), 41 INPUT (in), 42 INPUT (in), 43 INPUT (in), 44 INPUT (in), 45 VCC (power), 46 VCC (power), 47 INPUT (in), 48 INPUT (in), 49 INPUT (in), 50 I/O (io), 51 I/O (io), 52 I/O (io), 53 I/O (io), 54 I/O (io), 55 I/O (io), 56 I/O (io), 57 I/O (io), 58 I/O (io), 59 I/O (io), 60 I/O (io), 61 GND (power), 62 GND (power), 63 I/O (io), 64 I/O (io), 65 VCC (power), 66 VCC (power), 67 I/O (io), 68 I/O (io), 69 I/O (io), 70 I/O (io), 71 I/O (io), 72 I/O (io), 73 I/O (io), 74 I/O (io), 75 I/O (io), 76 I/O (io), 77 I/O (io), 78 INPUT (in), 79 INPUT (in), 80 INPUT (in), 81 GND (power), 82 GND (power), 83 INPUT (in), 84 INPUT (in)

## CY7C346B-35NC
designator U?
128-Macrocell MAX EPLD; Published: 11-Dec-2002; LatestRevisionDate: 13-Apr-2006; LatestRevisionNote: IPC-7351 Footprint Added.; DatasheetVersion: 8-Dec-1999; PackageVersion: Apr-2002; PackageReference: N100; Publisher: Altium Limited; PackageDescription: 100-Pin Plastic Quad Flat Pack Rectangular 0.65 mm Pitch; Code_IPC: QFP65P1720X2320-100; ComponentLink1Description: Manufacturer Link; ComponentLink1URL: http://www.cypress.com/; ComponentLink2Description: Datasheet; ComponentLink2URL: http://www.cypress.com/portal/server.pt/gateway/PTARGS_0_2_1524_209_259_43/http%3B/sjapp20.mis.cypress.com%3B7001/publishedcontent/publish/design_resources/datasheets/contents/cy7c346b_5.pdf
footprint N100_N (QFP, 100-Leads, Body 20x14mm, Pitch 0.65mm, IPC Medium Density)
footprint N100_L (QFP, 100-Leads, Body 20x14mm, Pitch 0.65mm, IPC High Density)
footprint N100_M (QFP, 100-Leads, Body 20x14mm, Pitch 0.65mm, IPC Low Density)
3D model CY7C346B-N100 (100-Pin Plastic Quad Flat Pack Rectangular 0.65 mm Pitch)
pins: 1 I/O (io), 2 I/O (io), 3 I/O (io), 4 I/O (io), 5 I/O (io), 6 I/O (io), 7 I/O (io), 8 I/O (io), 9 INPUT (in), 10 INPUT (in), 11 INPUT (in), 12 GND (power), 13 GND (power), 14 INPUT (in), 15 INPUT (in), 16 INPUT/CLK (in), 17 INPUT (in), 18 VCC (power), 19 VCC (power), 20 INPUT (in), 21 INPUT (in), 22 INPUT (in), 23 I/O (io), 24 I/O (io), 25 I/O (io), 26 I/O (io), 27 I/O (io), 28 I/O (io), 29 I/O (io), 30 I/O (io), 31 I/O (io), 32 I/O (io), 33 I/O (io), 34 I/O (io), 35 I/O (io), 36 I/O (io), 37 GND (power), 38 GND (power), 39 I/O (io), 40 I/O (io), 41 I/O (io), 42 I/O (io), 43 VCC (power), 44 VCC (power), 45 I/O (io), 46 I/O (io), 47 I/O (io), 48 I/O (io), 49 I/O (io), 50 I/O (io), 51 I/O (io), 52 I/O (io), 53 I/O (io), 54 I/O (io), 55 I/O (io), 56 I/O (io), 57 I/O (io), 58 I/O (io), 59 INPUT (in), 60 INPUT (in), 61 INPUT (in), 62 GND (power), 63 GND (power), 64 INPUT (in), 65 INPUT (in), 66 INPUT (in), 67 INPUT (in), 68 VCC (power), 69 VCC (power), 70 INPUT (in), 71 INPUT (in), 72 INPUT (in), 73 I/O (io), 74 I/O (io), 75 I/O (io), 76 I/O (io), 77 I/O (io), 78 I/O (io), 79 I/O (io), 80 I/O (io), 81 I/O (io), 82 I/O (io), 83 I/O (io), 84 I/O (io), 85 I/O (io), 86 I/O (io), 87 GND (power), 88 GND (power), 89 I/O (io), 90 I/O (io), 91 I/O (io), 92 I/O (io), 93 VCC (power), 94 VCC (power), 95 I/O (io), 96 I/O (io), 97 I/O (io), 98 I/O (io), 99 I/O (io), 100 I/O (io)

## CY7C346B-35NI
designator U?
128-Macrocell MAX EPLD; Published: 11-Dec-2002; LatestRevisionDate: 13-Apr-2006; LatestRevisionNote: IPC-7351 Footprint Added.; DatasheetVersion: 8-Dec-1999; PackageVersion: Apr-2002; PackageReference: N100; Publisher: Altium Limited; PackageDescription: 100-Pin Plastic Quad Flat Pack Rectangular 0.65 mm Pitch; Code_IPC: QFP65P1720X2320-100; ComponentLink1Description: Manufacturer Link; ComponentLink1URL: http://www.cypress.com/; ComponentLink2Description: Datasheet; ComponentLink2URL: http://www.cypress.com/portal/server.pt/gateway/PTARGS_0_2_1524_209_259_43/http%3B/sjapp20.mis.cypress.com%3B7001/publishedcontent/publish/design_resources/datasheets/contents/cy7c346b_5.pdf
footprint N100_N (QFP, 100-Leads, Body 20x14mm, Pitch 0.65mm, IPC Medium Density)
footprint N100_L (QFP, 100-Leads, Body 20x14mm, Pitch 0.65mm, IPC High Density)
footprint N100_M (QFP, 100-Leads, Body 20x14mm, Pitch 0.65mm, IPC Low Density)
3D model CY7C346B-N100 (100-Pin Plastic Quad Flat Pack Rectangular 0.65 mm Pitch)
pins: 1 I/O (io), 2 I/O (io), 3 I/O (io), 4 I/O (io), 5 I/O (io), 6 I/O (io), 7 I/O (io), 8 I/O (io), 9 INPUT (in), 10 INPUT (in), 11 INPUT (in), 12 GND (power), 13 GND (power), 14 INPUT (in), 15 INPUT (in), 16 INPUT/CLK (in), 17 INPUT (in), 18 VCC (power), 19 VCC (power), 20 INPUT (in), 21 INPUT (in), 22 INPUT (in), 23 I/O (io), 24 I/O (io), 25 I/O (io), 26 I/O (io), 27 I/O (io), 28 I/O (io), 29 I/O (io), 30 I/O (io), 31 I/O (io), 32 I/O (io), 33 I/O (io), 34 I/O (io), 35 I/O (io), 36 I/O (io), 37 GND (power), 38 GND (power), 39 I/O (io), 40 I/O (io), 41 I/O (io), 42 I/O (io), 43 VCC (power), 44 VCC (power), 45 I/O (io), 46 I/O (io), 47 I/O (io), 48 I/O (io), 49 I/O (io), 50 I/O (io), 51 I/O (io), 52 I/O (io), 53 I/O (io), 54 I/O (io), 55 I/O (io), 56 I/O (io), 57 I/O (io), 58 I/O (io), 59 INPUT (in), 60 INPUT (in), 61 INPUT (in), 62 GND (power), 63 GND (power), 64 INPUT (in), 65 INPUT (in), 66 INPUT (in), 67 INPUT (in), 68 VCC (power), 69 VCC (power), 70 INPUT (in), 71 INPUT (in), 72 INPUT (in), 73 I/O (io), 74 I/O (io), 75 I/O (io), 76 I/O (io), 77 I/O (io), 78 I/O (io), 79 I/O (io), 80 I/O (io), 81 I/O (io), 82 I/O (io), 83 I/O (io), 84 I/O (io), 85 I/O (io), 86 I/O (io), 87 GND (power), 88 GND (power), 89 I/O (io), 90 I/O (io), 91 I/O (io), 92 I/O (io), 93 VCC (power), 94 VCC (power), 95 I/O (io), 96 I/O (io), 97 I/O (io), 98 I/O (io), 99 I/O (io), 100 I/O (io)

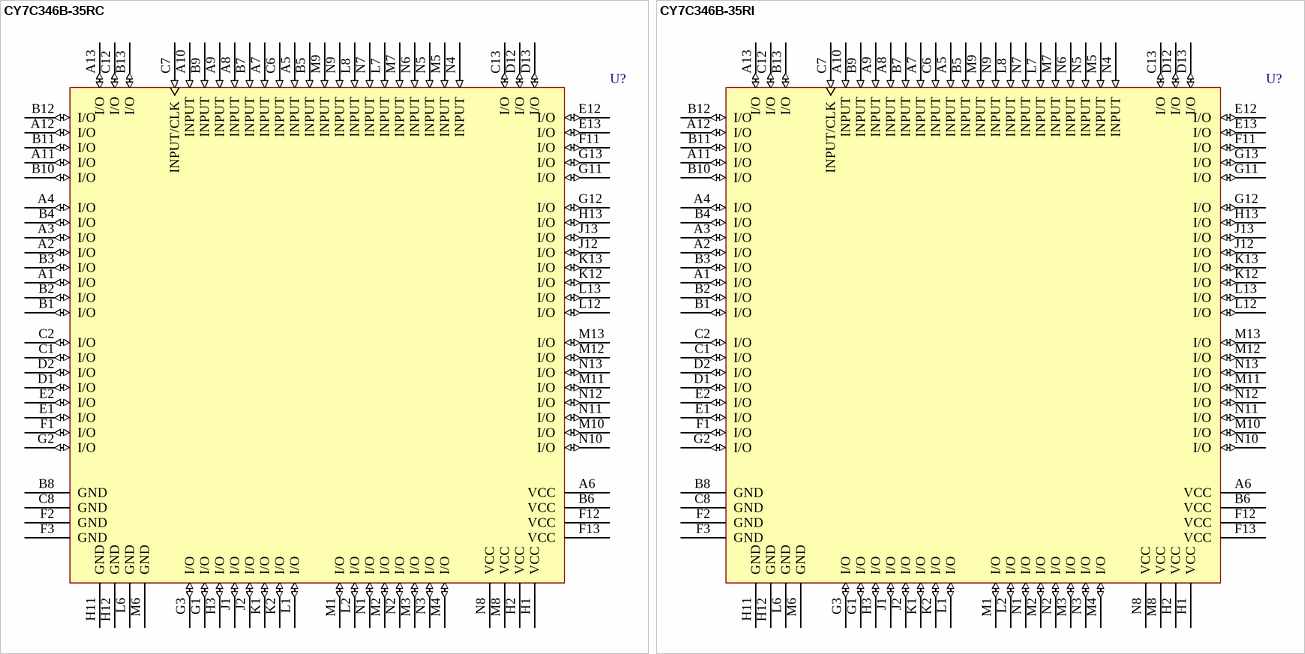
[diagram p23: symbols CY7C346B-35RC to CY7C346B-35RI]

## CY7C346B-35RC
designator U?
128-Macrocell MAX EPLD; Published: 11-Dec-2002; LatestRevisionDate: 04-Mar-2005; LatestRevisionNote: Stylized 3D Model Added.; DatasheetVersion: 8-Dec-1999; PackageVersion: Apr-2002; PackageReference: R100; Publisher: Altium Limited; PackageDescription: 100-Pin Ceramic Window Pin Grid Array 2.54 mm Pitch; ComponentLink1Description: Manufacturer Link; ComponentLink1URL: http://www.cypress.com/; ComponentLink2Description: Datasheet; ComponentLink2URL: http://www.cypress.com/portal/server.pt/gateway/PTARGS_0_2_1524_209_259_43/http%3B/sjapp20.mis.cypress.com%3B7001/publishedcontent/publish/design_resources/datasheets/contents/cy7c346b_5.pdf
footprint R100 (PGA, 100-Leads, Body 33.3x33.3mm, Pitch 2.54mm)
3D model CY7C346B-R100 (100-Pin Ceramic Window Pin Grid Array 2.54 mm Pitch)
pins: A1 I/O (io), A2 I/O (io), A3 I/O (io), A4 I/O (io), A5 INPUT (in), A6 VCC (power), A7 INPUT (in), A8 INPUT (in), A9 INPUT (in), A10 INPUT (in), A11 I/O (io), A12 I/O (io), A13 I/O (io), B1 I/O (io), B2 I/O (io), B3 I/O (io), B4 I/O (io), B5 INPUT (in), B6 VCC (power), B7 INPUT (in), B8 GND (power), B9 INPUT (in), B10 I/O (io), B11 I/O (io), B12 I/O (io), B13 I/O (io), C1 I/O (io), C2 I/O (io), C6 INPUT (in), C7 INPUT/CLK (in), C8 GND (power), C12 I/O (io), C13 I/O (io), D1 I/O (io), D2 I/O (io), D12 I/O (io), D13 I/O (io), E1 I/O (io), E2 I/O (io), E12 I/O (io), E13 I/O (io), F1 I/O (io), F2 GND (power), F3 GND (power), F11 I/O (io), F12 VCC (power), F13 VCC (power), G1 I/O (io), G2 I/O (io), G3 I/O (io), G11 I/O (io), G12 I/O (io), G13 I/O (io), H1 VCC (power), H2 VCC (power), H3 I/O (io), H11 GND (power), H12 GND (power), H13 I/O (io), J1 I/O (io), J2 I/O (io), J12 I/O (io), J13 I/O (io), K1 I/O (io), K2 I/O (io), K12 I/O (io), K13 I/O (io), L1 I/O (io), L2 I/O (io), L6 GND (power), L7 INPUT (in), L8 INPUT (in), L12 I/O (io), L13 I/O (io), M1 I/O (io), M2 I/O (io), M3 I/O (io), M4 I/O (io), M5 INPUT (in), M6 GND (power), M7 INPUT (in), M8 VCC (power), M9 INPUT (in), M10 I/O (io), M11 I/O (io), M12 I/O (io), M13 I/O (io), N1 I/O (io), N2 I/O (io), N3 I/O (io), N4 INPUT (in), N5 INPUT (in), N6 INPUT (in), N7 INPUT (in), N8 VCC (power), N9 INPUT (in), N10 I/O (io), N11 I/O (io), N12 I/O (io), N13 I/O (io)

## CY7C346B-35RI
designator U?
128-Macrocell MAX EPLD; Published: 11-Dec-2002; LatestRevisionDate: 04-Mar-2005; LatestRevisionNote: Stylized 3D Model Added.; DatasheetVersion: 8-Dec-1999; PackageVersion: Apr-2002; PackageReference: R100; Publisher: Altium Limited; PackageDescription: 100-Pin Ceramic Window Pin Grid Array 2.54 mm Pitch; ComponentLink1Description: Manufacturer Link; ComponentLink1URL: http://www.cypress.com/; ComponentLink2Description: Datasheet; ComponentLink2URL: http://www.cypress.com/portal/server.pt/gateway/PTARGS_0_2_1524_209_259_43/http%3B/sjapp20.mis.cypress.com%3B7001/publishedcontent/publish/design_resources/datasheets/contents/cy7c346b_5.pdf
footprint R100 (PGA, 100-Leads, Body 33.3x33.3mm, Pitch 2.54mm)
3D model CY7C346B-R100 (100-Pin Ceramic Window Pin Grid Array 2.54 mm Pitch)
pins: A1 I/O (io), A2 I/O (io), A3 I/O (io), A4 I/O (io), A5 INPUT (in), A6 VCC (power), A7 INPUT (in), A8 INPUT (in), A9 INPUT (in), A10 INPUT (in), A11 I/O (io), A12 I/O (io), A13 I/O (io), B1 I/O (io), B2 I/O (io), B3 I/O (io), B4 I/O (io), B5 INPUT (in), B6 VCC (power), B7 INPUT (in), B8 GND (power), B9 INPUT (in), B10 I/O (io), B11 I/O (io), B12 I/O (io), B13 I/O (io), C1 I/O (io), C2 I/O (io), C6 INPUT (in), C7 INPUT/CLK (in), C8 GND (power), C12 I/O (io), C13 I/O (io), D1 I/O (io), D2 I/O (io), D12 I/O (io), D13 I/O (io), E1 I/O (io), E2 I/O (io), E12 I/O (io), E13 I/O (io), F1 I/O (io), F2 GND (power), F3 GND (power), F11 I/O (io), F12 VCC (power), F13 VCC (power), G1 I/O (io), G2 I/O (io), G3 I/O (io), G11 I/O (io), G12 I/O (io), G13 I/O (io), H1 VCC (power), H2 VCC (power), H3 I/O (io), H11 GND (power), H12 GND (power), H13 I/O (io), J1 I/O (io), J2 I/O (io), J12 I/O (io), J13 I/O (io), K1 I/O (io), K2 I/O (io), K12 I/O (io), K13 I/O (io), L1 I/O (io), L2 I/O (io), L6 GND (power), L7 INPUT (in), L8 INPUT (in), L12 I/O (io), L13 I/O (io), M1 I/O (io), M2 I/O (io), M3 I/O (io), M4 I/O (io), M5 INPUT (in), M6 GND (power), M7 INPUT (in), M8 VCC (power), M9 INPUT (in), M10 I/O (io), M11 I/O (io), M12 I/O (io), M13 I/O (io), N1 I/O (io), N2 I/O (io), N3 I/O (io), N4 INPUT (in), N5 INPUT (in), N6 INPUT (in), N7 INPUT (in), N8 VCC (power), N9 INPUT (in), N10 I/O (io), N11 I/O (io), N12 I/O (io), N13 I/O (io)